# Altium schematic symbol library RR1220P-103-D.SchLib: 1 symbol
Pins are listed as number, name and electrical type; pins without a type are passive.

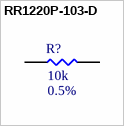
[diagram p0: symbol RR1220P-103-D]

## RR1220P-103-D
designator R?  Resistance: 10k  Tolerance: 0.5%  (hidden comment: RR1220P-103-D)
RES SMD 10K OHM 0.5% 1/10W 0805; MFR: Susumu; PN: RR1220P-103-D; Footprint: RES0805; Package: 0805; ComponentLink1Description: Datasheet; ComponentLink1URL: https://www.susumu.co.jp/common/pdf/n_catalog_partition05_en.pdf; Power Rating: 1/10W; Supplier 1: Digi-Key; Supplier Part Number 1: RR12P10.0KDCT-ND
footprint RES0805 (Generic 0805 PCB Footprint)
pins: 1, 2